# EAGLE library part AS6C6264 (library memories)
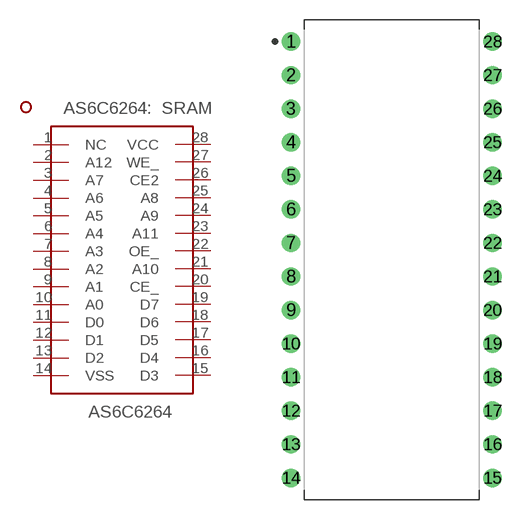
[diagram p3: symbol with the pads of DIP1524W50P254L3616H390Q28B; footprint DIP1524W50P254L3616H390Q28B]

Designator prefix -

## AS6C626428PIN-600MIL-PDIP  [DIP1524W50P254L3616H390Q28B]
1  NC  nc
2  A12  in
3  A7  in
4  A6  in
5  A5  in
6  A4  in
7  A3  out
8  A2  in
9  A1  in
10  A0  in
11  D0
12  D1
13  D2
14  VSS  pwr
15  D3
16  D4  in
17  D5
18  D6
19  D7
20  CE_  in
21  A10  in
22  OE_  in
23  A11  in
24  A9  in
25  A8  in
26  CE2
27  WE_  in
28  VCC  pwr

## Footprint DIP1524W50P254L3616H390Q28B (pad centres in mm)
28-DIP, 2.54 mm (0.10 in) pitch, 15.24 mm (0.60 in) span, 36.16 X 13.20 X 3.90 mm body 28-pin DIP package with 2.54 mm (0.10 in) pitch, 15.24 mm (0.60 in) span with body size 36.16 X 13.20 X 3.90 mm
drill 0.792 pad 1.392: 1 -7.62,16.51; 2 -7.62,13.97; 3 -7.62,11.43; 4 -7.62,8.89; 5 -7.62,6.35; 6 -7.62,3.81; 7 -7.62,1.27; 8 -7.62,-1.27; 9 -7.62,-3.81; 10 -7.62,-6.35; 11 -7.62,-8.89; 12 -7.62,-11.43; 13 -7.62,-13.97; 14 -7.62,-16.51; 15 7.62,-16.51; 16 7.62,-13.97; 17 7.62,-11.43; 18 7.62,-8.89; 19 7.62,-6.35; 20 7.62,-3.81; 21 7.62,-1.27; 22 7.62,1.27; 23 7.62,3.81; 24 7.62,6.35; 25 7.62,8.89; 26 7.62,11.43; 27 7.62,13.97; 28 7.62,16.51